# Altium schematic symbol library Personal_Schematic_Library_2022.SchLib: 863 symbols (part 7 of 8)
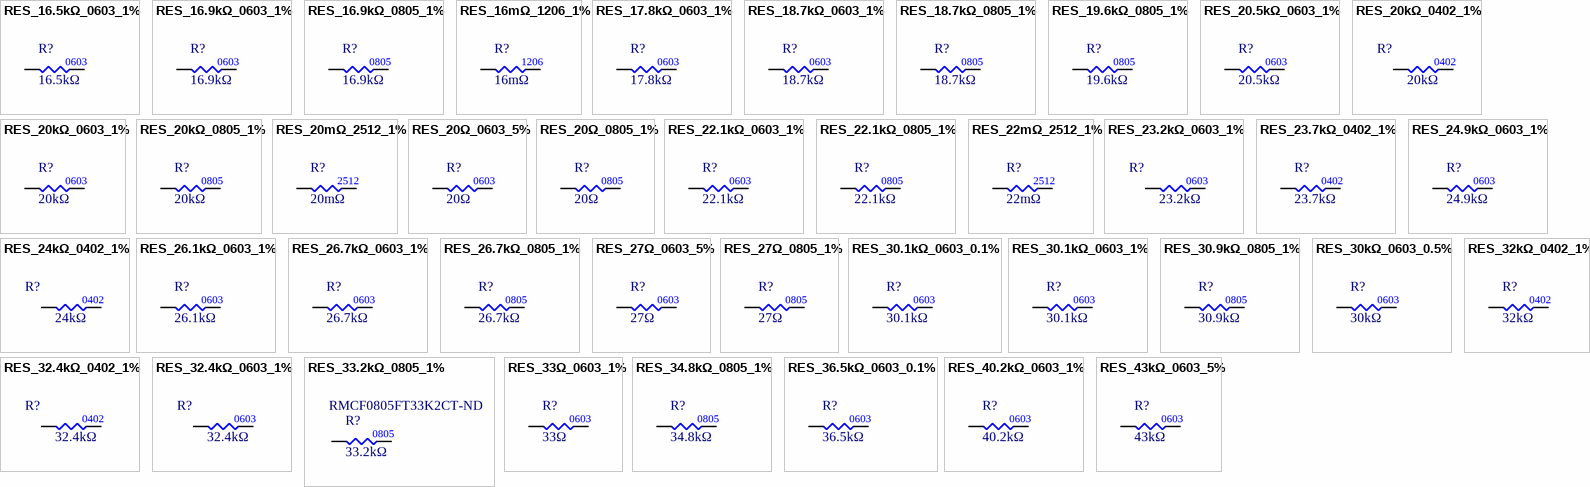
[diagram p35: symbols RES_16.5kΩ_0603_1% to RES_43kΩ_0603_5%]

## RES_20Ω_0805_1%
designator R?  value 20Ω
RES 20 OHM 1% 1/8W 0805; Manufacturer 1: Yageo; Manufacturer Part Number 1: RC0805FR-0720RL; Supplier 1: Digi-Key; Mounting Type: SMD; Supplier Part Number 1: 311-20.0CRCT-ND; LCSC Part #: C17581; Package: 0805
footprint RES0805 (Chip Resistor, 2-Leads, Body 2.00x1.25mm, IPC High Density)
pins: 1, 2

## RES_22.1kΩ_0603_1%
designator R?  value 22.1kΩ
RES 22.1K OHM 1% 1/10W 0603; Manufacturer 1: Stackpole Electronics Inc; Manufacturer Part Number 1: RMCF0603FT22K1; Supplier 1: Digi-Key; Supplier Part Number 1: RMCF0603FT22K1CT-ND
footprint RES0603 (Chip Resistor, Body 1.6x0.8mm, IPC Medium Density)
pins: 1, 2
text: 0603

## RES_22.1kΩ_0805_1%
designator R?  value 22.1kΩ
RES 22.1K OHM 1% 1/8W 0805; Manufacturer 1: Vishay Dale; Manufacturer Part Number 1: CRCW080522K1FKEA; Supplier 1: Digi-Key; Supplier Part Number 1: 541-22.1KCCT-ND
footprint RES0805 (Chip Resistor, 2-Leads, Body 2.00x1.25mm, IPC High Density)
pins: 1, 2
text: 0805

## RES_22mΩ_2512_1%
designator R?  value 22mΩ
RES 22 mOHM 1% 2W 2512; Manufacturer 1: Yageo; Manufacturer Part Number 1: PE2512FKE7W0R022L; Supplier 1: Digi-Key; Supplier Part Number 1: YAG2168CT-ND
footprint RESC6532X75N
pins: 1, 2
text: 2512

## RES_23.2kΩ_0603_1%
designator R?  value 23.2kΩ
RES 23.2K OHM 1% 1/10W 0603; Manufacturer Part Number 1: RMCF0603FT23K2; Manufacturer 1: Stackpole Electronics Inc; Package/Footprint: 0603; Supplier 1: Digi-Key; Supplier Part Number 1: RMCF0603FT23K2CT-ND
footprint RES0603 (Chip Resistor, Body 1.6x0.8mm, IPC Medium Density)
pins: 1, 2

## RES_23.7kΩ_0402_1%
designator R?  value 23.7kΩ
RES 23.7K OHM 1% 1/16W 0402; Manufacturer Part Number 1: RMCF0402FT23K7; Manufacturer 1: Stackpole Electronics Inc; Power: 0.063W, 1/16W; Package/Footprint: 0402; Supplier 1: Digi-Key; Supplier Part Number 1: RMCF0402FT23K7CT-ND; Mounting Type: SMD; Tolerance: 1%
footprint RES0402 (Chip Resistor, Body 1x0.5mm, IPC Medium Density)
pins: 1, 2

## RES_24.9kΩ_0603_1%
designator R?  value 24.9kΩ
RES 24.9K OHM 1% 1/10W 0603; Manufacturer 1: YAGEO; Manufacturer Part Number 1: RC0603FR-0724K9L; Supplier Part Number 1: 311-24.9KHRCT-ND; Supplier 1: Digi-Key
footprint RES0603 (Chip Resistor, Body 1.6x0.8mm, IPC Medium Density)
pins: 1, 2
text: 0603

## RES_24kΩ_0402_1%
designator R?  value 24kΩ
RES 24K OHM 1% 1/16W 0402; Manufacturer Part Number 1: RC0402FR-0724KL; Manufacturer 1: Yageo; Power: 0.063W, 1/16W; Package/Footprint: 0402; Supplier 1: Digi-Key; Supplier Part Number 1: 311-24KLRCT-ND; Mounting Type: SMD; Tolerance: 1%
footprint RES0402 (Chip Resistor, Body 1x0.5mm, IPC Medium Density)
pins: 1, 2

## RES_26.1kΩ_0603_1%
designator R?  value 26.1kΩ
RES 26.1K OHM 1% 1/10W 0603; Manufacturer 1: Yageo; Manufacturer Part Number 1: RC0603FR-0726K1L; Supplier Part Number 1: 311-26.1KHRCT-ND; Supplier 1: Digi-Key
footprint RES0603 (Chip Resistor, Body 1.6x0.8mm, IPC Medium Density)
pins: 1, 2
text: 0603

## RES_26.7kΩ_0603_1%
designator R?  value 26.7kΩ
RES 26.7K OHM 1% 1/10W 0603; Manufacturer 1: Yageo; Manufacturer Part Number 1: RC0603FR-0726K7L; Supplier Part Number 1: 311-26.7KHRCT-ND; Supplier 1: Digi-Key
footprint RES0603 (Chip Resistor, Body 1.6x0.8mm, IPC Medium Density)
pins: 1, 2
text: 0603

## RES_26.7kΩ_0805_1%
designator R?  value 26.7kΩ
RES 26.7K OHM 1% 1/8W 0805; Manufacturer 1: Panasonic Electronic Components; Manufacturer Part Number 1: ERJ-6ENF2672V; Supplier Part Number 1: P26.7KCCT-ND; Supplier 1: Digi-Key; Mounting Type: SMD; LCSC Part #: C17581; Package: 0805
footprint RES0805 (Chip Resistor, 2-Leads, Body 2.00x1.25mm, IPC High Density)
pins: 1, 2

## RES_27Ω_0603_5%
designator R?  value 27Ω
RES 27 OHM 5% 1/10W 0603; Manufacturer 1: Yageo; Manufacturer Part Number 1: RC0603JR-0727RL; Supplier 1: Digi-Key; Mounting Type: SMD; Supplier Part Number 1: 311-27GRCT-ND; Package: 0603
footprint RES0603 (Chip Resistor, Body 1.6x0.8mm, IPC Medium Density)
pins: 1, 2

## RES_27Ω_0805_1%
designator R?  value 27Ω
RES 27 OHM 1% 1/8W 0805; Manufacturer 1: Yageo; Manufacturer Part Number 1: RC0805FR-0727RL; Supplier 1: Digi-Key; Supplier Part Number 1: 311-27.0CRCT-ND; Package: 0805; Tolerance: 1%
footprint RES0805 (Chip Resistor, 2-Leads, Body 2.00x1.25mm, IPC High Density)
pins: 1, 2

## RES_30.1kΩ_0603_0.1%
designator R?  value 30.1kΩ
RES SMD 30.1KOHM 0.1% 1/10W 0603; Manufacturer 1: YAGEO; Manufacturer Part Number 1: RT0603BRD0730K1L; Mounting Type: SMD; Package: 0603; Supplier 1: Digi-Key; Supplier Part Number 1: YAG1631CT-ND
footprint RES0603 (Chip Resistor, Body 1.6x0.8mm, IPC Medium Density)
pins: 1, 2

## RES_30.1kΩ_0603_1%
designator R?  value 30.1kΩ
RES 30.1K OHM 1% 1/10W 0603; Manufacturer 1: Panasonic Electronic Components; Manufacturer Part Number 1: ERJ-3EKF3012V; Mounting Type: SMD; Package: 0603; Supplier 1: Digikey; Supplier Part Number 1: P30.1KHCT-ND
footprint RES0603 (Chip Resistor, Body 1.6x0.8mm, IPC Medium Density)
pins: 1, 2

## RES_30.9kΩ_0805_1%
designator R?  value 30.9kΩ
RES 30.9K OHM 1% 1/8W 0805; Manufacturer 1: Stackpole Electronics Inc; Manufacturer Part Number 1: RMCF0805FT30K9; Supplier 1: Digi-Key; Supplier Part Number 1: RMCF0805FT30K9CT-ND; Package: 0805
footprint RES0805 (Chip Resistor, 2-Leads, Body 2.00x1.25mm, IPC High Density)
pins: 1, 2

## RES_30kΩ_0603_0.5%
designator R?  value 30kΩ
RES 30K OHM 0.5% 1/10W 0603; Manufacturer 1: Yageo; Manufacturer Part Number 1: RT0603DRD0730KL; Supplier Part Number 1: 311-30KDCT-ND; Supplier 1: Digi-Key; Package: 0603; Tolerance: 0.5%
footprint RES0603 (Chip Resistor, Body 1.6x0.8mm, IPC Medium Density)
pins: 1, 2

## RES_32.4kΩ_0402_1%
designator R?  value 32.4kΩ
RES 32.4K OHM 1% 1/10W 0402; Manufacturer Part Number 1: ERJ-2RKF3242X; Manufacturer 1: Panasonic Electronic Components; Power: 0.1W, 1/10W; Package/Footprint: 0402; Supplier 1: Digi-Key; Supplier Part Number 1: P32.4KLCT-ND; Mounting Type: SMD; Tolerance: 1%
footprint RES0402 (Chip Resistor, Body 1x0.5mm, IPC Medium Density)
pins: 1, 2

## RES_32.4kΩ_0603_1%
designator R?  value 32.4kΩ
RES 32.4K OHM 1% 1/10W 0603; Manufacturer Part Number 1: RC0603FR-0732K4L; Manufacturer 1: YAGEO; Package/Footprint: 0603; Supplier 1: Digi-Key; Supplier Part Number 1: 311-32.4KHRCT-ND
footprint RES0603 (Chip Resistor, Body 1.6x0.8mm, IPC Medium Density)
pins: 1, 2

## RES_32kΩ_0402_1%
designator R?  value 32kΩ
RES 32K OHM 1% 1/16W 0402; Manufacturer 1: Vishay Dale; Manufacturer Part Number 1: RN73H1ETTP3202F50; Package/Footprint: 0402; Supplier 1: Digi-Key; Supplier Part Number 1: 2019-RN73H1ETTP3202F50CT-ND; Tolerance: 1%
footprint RES0402 (Chip Resistor, Body 1x0.5mm, IPC Medium Density)
pins: 1, 2

## RES_33.2kΩ_0805_1%
designator R?  value 33.2kΩ  Supplier Part Number 1: RMCF0805FT33K2CT-ND
RES 33.2K OHM 1% 1/8W 0805; Manufacturer 1: Stackpole Electronics Inc; Manufacturer Part Number 1: RMCF0805FT33K2; Package/Footprint: 0805; Mounting Type: SMD; Supplier 1: Digi-Key
footprint RES0805 (Chip Resistor, 2-Leads, Body 2.00x1.25mm, IPC High Density)
pins: 1, 2

## RES_33Ω_0603_1%
designator R?  value 33Ω
RES 33 OHM 1% 1/10W 0603; Manufacturer 1: Vishay; Manufacturer Part Number 1: CRCW060333R0FKEA; Supplier 1: Digi-Key; Mounting Type: SMD; Supplier Part Number 1: 541-33.0HCT-ND; Package: 0603
footprint RES0603 (Chip Resistor, Body 1.6x0.8mm, IPC Medium Density)
pins: 1, 2

## RES_34.8kΩ_0805_1%
designator R?  value 34.8kΩ
RES 34.8K OHM 1% 1/8W 0805; Manufacturer 1: Stackpole Electronics Inc; Manufacturer Part Number 1: RMCF0805FT34K8; Supplier 1: Digi-Key; Supplier Part Number 1: RMCF0805FT34K8CT-ND; Package: 0805
footprint RES0805 (Chip Resistor, 2-Leads, Body 2.00x1.25mm, IPC High Density)
pins: 1, 2

## RES_36.5kΩ_0603_0.1%
designator R?  value 36.5kΩ
RES SMD 36.5K OHM 0.1% 1/5W 0603; Manufacturer 1: Panasonic Electronic Components; Manufacturer Part Number 1: ERJ-PB3B3652V; Supplier 1: Digi-Key; Mounting Type: SMD; Supplier Part Number 1: P20149CT-ND; Package: 0603
footprint RES0603 (Chip Resistor, Body 1.6x0.8mm, IPC Medium Density)
pins: 1, 2

## RES_40.2kΩ_0603_1%
designator R?  value 40.2kΩ
RES 40.2K OHM 1% 1/10W 0603; Manufacturer 1: Yageo; Manufacturer Part Number 1: RC0603FR-0740K2L; Supplier Part Number 1: 311-40.2KHRCT-ND; Supplier 1: Digi-Key
footprint RES0603 (Chip Resistor, Body 1.6x0.8mm, IPC Medium Density)
pins: 1, 2
text: 0603

## RES_43kΩ_0603_5%
designator R?  value 43kΩ
RES 43K OHM 5% 1/10W 0603; Manufacturer 1: Yageo; Manufacturer Part Number 1: RC0603JR-0743KL; Supplier Part Number 1: 311-43KGRCT-ND; Supplier 1: Digi-Key
footprint RES0603 (Chip Resistor, Body 1.6x0.8mm, IPC Medium Density)
pins: 1, 2
text: 0603

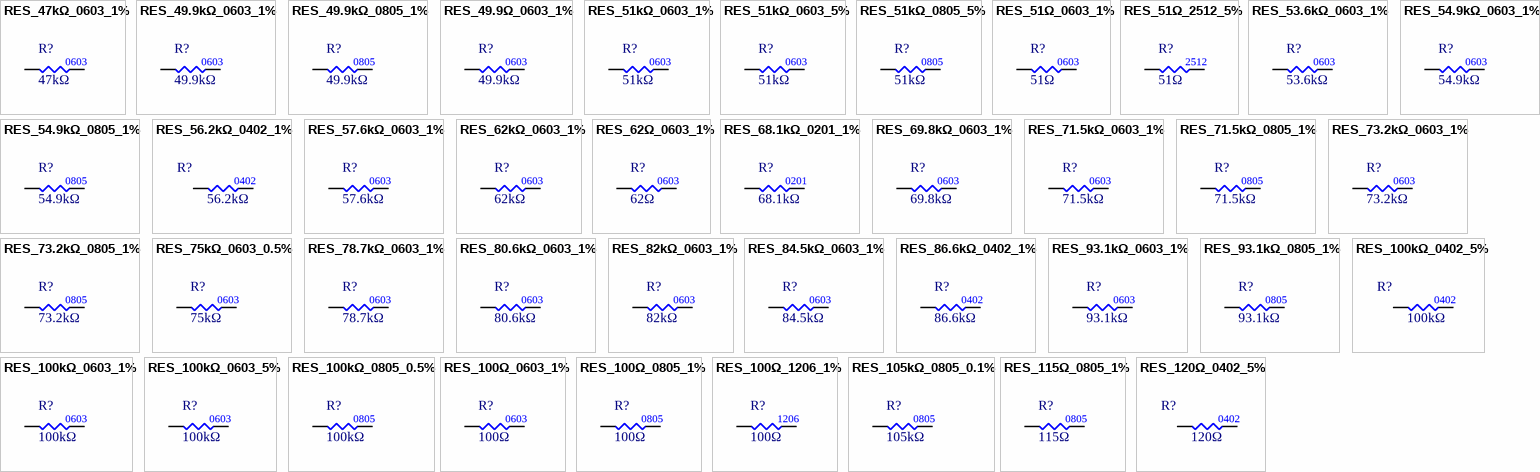
[diagram p24: symbols RES_47kΩ_0603_1% to RES_120Ω_0402_5%]

## RES_47kΩ_0603_1%
designator R?  value 47kΩ
RES 47K OHM 1% 1/10W 0603; Manufacturer 1: YAGEO; Manufacturer Part Number 1: RC0603FR-0747KL; Mounting Type: SMD; Package: 0603; Supplier 1: DigiKey; Supplier Part Number 1: 311-4.70KHRCT-ND
footprint RES0603 (Chip Resistor, Body 1.6x0.8mm, IPC Medium Density)
pins: 1, 2

## RES_49.9kΩ_0603_1%
designator R?  value 49.9kΩ
RES 49.9K OHM 1% 1/10W 0603; Manufacturer Part Number 1: RK73H1JTTD4992F; Manufacturer 1: KOA Speer Electronics, Inc.; Supplier 1: Digi-Key; Supplier Part Number 1: 2019-RK73H1JTTD4992FCT-ND; Mounting Type: SMD
footprint RES0603 (Chip Resistor, Body 1.6x0.8mm, IPC Medium Density)
pins: 1, 2
text: 0603

## RES_49.9kΩ_0805_1%
designator R?  value 49.9kΩ
RES 49.9K OHM 1% 1/8W 0805; Manufacturer 1: Vishay Dale; Manufacturer Part Number 1: TNPW080549K9BEEN; Package/Footprint: 0805; Supplier 1: Digi-Key; Mounting Type: SMD; Supplier Part Number 1: 541-3802-1-ND; LCSC Part #: C17719
footprint RES0805 (Chip Resistor, 2-Leads, Body 2.00x1.25mm, IPC High Density)
pins: 1, 2

## RES_49.9Ω_0603_1%
designator R?  value 49.9kΩ
RES 49.9 OHM 1% 1/10W 0603; Manufacturer 1: Yageo; Manufacturer Part Number 1: RC0603FR-0749R9L; Supplier 1: Digi-Key; Supplier Part Number 1: 311-49.9HRDKR-ND
footprint RES0603 (Chip Resistor, Body 1.6x0.8mm, IPC Medium Density)
pins: 1, 2
text: 0603

## RES_51kΩ_0603_1%
designator R?  value 51kΩ
RES 51K OHM 1% 1/10W 0603; Manufacturer 1: Yageo; Manufacturer Part Number 1: RC0603FR-0751KL; Supplier Part Number 1: 311-51.0KHRCT-ND; Supplier 1: Digi-Key
footprint RES0603 (Chip Resistor, Body 1.6x0.8mm, IPC Medium Density)
pins: 1, 2
text: 0603

## RES_51kΩ_0603_5%
designator R?  value 51kΩ
RES 51K OHM 5% 1/10W 0603; Manufacturer 1: Yageo; Manufacturer Part Number 1: RC0603JR-0751KL; Supplier Part Number 1: 311-51KGRCT-ND; Supplier 1: Digi-Key
footprint RESC0603(1608)_N (Chip Resistor, Body 1.6x0.8mm, IPC Medium Density)
pins: 1, 2
text: 0603

## RES_51kΩ_0805_5%
designator R?  value 51kΩ
RES 51K OHM 1% 1/8W 0805; Manufacturer 1: Vishay Dale; Manufacturer Part Number 1: CRCW080551K0FKEA; Supplier 1: Digi-Key; Supplier Part Number 1: 541-51.0KCCT-ND
footprint RESC2012X60N
pins: 1, 2
text: 0805

## RES_51Ω_0603_1%
designator R?  value 51Ω
RES 51 OHM 1% 1/10W 0603; Manufacturer 1: YAGEO; Manufacturer Part Number 1: RC0603FR-0751RL; Supplier 1: Digi-Key; Supplier Part Number 1: 311-51.0HRCT-ND
footprint RES0603 (Chip Resistor, Body 1.6x0.8mm, IPC Medium Density)
pins: 1, 2
text: 0603

## RES_51Ω_2512_5%
designator R?  value 51Ω
RES 51 OHM 5% 2W 2512; Manufacturer 1: Bourns Inc.; Manufacturer Part Number 1: CRM2512-JW-510ELF; Supplier 1: Digi-Key; Supplier Part Number 1: 118-CRM2512-JW-510ELFCT-ND
footprint RESC6532X75N
pins: 1, 2
text: 2512

## RES_53.6kΩ_0603_1%
designator R?  value 53.6kΩ
RES 53.6K OHM 1% 1/10W 0603; Manufacturer 1: Vishay Dale; Manufacturer Part Number 1: CRCW060353K6FKEAC; Package/Footprint: 0603; Supplier 1: Digi-Key; Supplier Part Number 1: 541-5473-1-ND
footprint RES0603 (Chip Resistor, Body 1.6x0.8mm, IPC Medium Density)
pins: 1, 2

## RES_54.9kΩ_0603_1%
designator R?  value 54.9kΩ
RES 54.9K OHM 1% 1/10W 0603; Manufacturer 1: Vishay Dale; Manufacturer Part Number 1: CRCW060354K9FKEA; Package/Footprint: 0603; Supplier 1: Digi-Key; Supplier Part Number 1: 541-54.9KHCT-ND
footprint RES0603 (Chip Resistor, Body 1.6x0.8mm, IPC Medium Density)
pins: 1, 2

## RES_54.9kΩ_0805_1%
designator R?  value 54.9kΩ
RES 54.9K OHM 1% 1/8W 0805; Manufacturer 1: Panasonic Electronic Components; Manufacturer Part Number 1: ERJ-6ENF5492V; Package/Footprint: 0805; Supplier 1: Digi-Key; Supplier Part Number 1: P54.9KCCT-ND
footprint RES0805 (Chip Resistor, 2-Leads, Body 2.00x1.25mm, IPC High Density)
pins: 1, 2

## RES_56.2kΩ_0402_1%
designator R?  value 56.2kΩ
RES 56.2K OHM 1% 1/16W 0402; Manufacturer Part Number 1: RC0402FR-0756K2L; Manufacturer 1: Yageo; Power: 0.063W, 1/16W; Package/Footprint: 0402; Supplier 1: Digi-Key; Supplier Part Number 1: YAG3187CT-ND; Mounting Type: SMD; Tolerance: 1%
footprint RES0402 (Chip Resistor, Body 1x0.5mm, IPC Medium Density)
pins: 1, 2

## RES_57.6kΩ_0603_1%
designator R?  value 57.6kΩ
RES 57.6K OHM 1% 1/10W 0603; Manufacturer 1: YAGEO; Manufacturer Part Number 1: RC0603FR-0757K6L; Package/Footprint: 0603; Supplier 1: Digi-Key; Supplier Part Number 1: 311-57.6KHRCT-ND
footprint RES0603 (Chip Resistor, Body 1.6x0.8mm, IPC Medium Density)
pins: 1, 2

## RES_62kΩ_0603_1%
designator R?  value 62kΩ
RES 62K OHM 1% 1/10W 0603; Manufacturer: Stackpole Electronics Inc; Manufacturer Part Number 1: RMCF0603FT62K0; Supplier 1: Digi-Key; Supplier Part Number 1: RMCF0603FT62K0CT-ND; Package: 0603
footprint RES0603 (Chip Resistor, Body 1.6x0.8mm, IPC Medium Density)
pins: 1, 2

## RES_62Ω_0603_1%
designator R?  value 62Ω
RES 62 OHM 1% 1/10W 0603; Manufacturer: Vishay; Manufacturer Part Number 1: CRCW060362R0FKEA; Supplier 1: Digi-Key; Supplier Part Number 1: 541-62.0HCT-ND; Package: 0603
pins: 1, 2

## RES_68.1kΩ_0201_1%
designator R?  value 68.1kΩ
RES 68.1K OHM 1% 1/20W 0201; Manufacturer 1: Panasonic Electronic Components; Manufacturer Part Number 1: ERJ-1GNF6812C; Supplier 1: Digi-Key; Supplier Part Number 1: P123130CT-ND; Package: 0201
footprint RES0201 (Chip Resistor, Body 0.6x0.3mm, IPC Medium Density)
pins: 1, 2

## RES_69.8kΩ_0603_1%
designator R?  value 69.8kΩ
RES 69.8K OHM 1% 1/10W 0603; Manufacturer 1: YAGEO; Manufacturer Part Number 1: RC0603FR-0769K8L; Package/Footprint: 0603; Mounting Type: SMD; Supplier 1: Digi-Key; Supplier Part Number 1: 311-69.8KHRCT-ND
footprint RES0603 (Chip Resistor, Body 1.6x0.8mm, IPC Medium Density)
pins: 1, 2

## RES_71.5kΩ_0603_1%
designator R?  value 71.5kΩ
RES 71.5K OHM 1% 1/10W 0603; Manufacturer 1: Stackpole Electronics Inc; Manufacturer Part Number 1: RMCF0603FT71K5; Package/Footprint: 0603; Mounting Type: SMD; Supplier 1: Digi-Key; Supplier Part Number 1: RMCF0603FT71K5CT-ND
footprint RES0603 (Chip Resistor, Body 1.6x0.8mm, IPC Medium Density)
pins: 1, 2

## RES_71.5kΩ_0805_1%
designator R?  value 71.5kΩ
RES 71.5K OHM 1% 1/8W 0805; Manufacturer 1: Yageo; Manufacturer Part Number 1: RC0805FR-0771K5L; Package/Footprint: 0805; Mounting Type: SMD; Supplier 1: Digi-Key; Supplier Part Number 1: 311-71.5KCRCT-ND
footprint RES0805 (Chip Resistor, 2-Leads, Body 2.00x1.25mm, IPC High Density)
pins: 1, 2

## RES_73.2kΩ_0603_1%
designator R?  value 73.2kΩ
RES 73.2K OHM 1% 1/16W 0603; Manufacturer 1: TE Connectivity Passive Product; Manufacturer Part Number 1: CPF0603F73K2C1; Supplier Part Number 1: A102314CT-ND; Supplier 1: Digi-Key
footprint RES0603 (Chip Resistor, Body 1.6x0.8mm, IPC Medium Density)
pins: 1, 2
text: 0603

## RES_73.2kΩ_0805_1%
designator R?  value 73.2kΩ
RES 73.2K OHM 1% 1/8W 0805; Manufacturer 1: Yageo; Manufacturer Part Number 1: RC0805FR-0773K2L; Package/Footprint: 0805; Mounting Type: SMD; Supplier 1: Digi-Key; Supplier Part Number 1: 311-73.2KCRCT-ND
footprint RES0805 (Chip Resistor, 2-Leads, Body 2.00x1.25mm, IPC High Density)
pins: 1, 2

## RES_75kΩ_0603_0.5%
designator R?  value 75kΩ
RES 75K OHM 0.5% 1/10W 0603; Manufacturer 1: Yageo; Manufacturer Part Number 1: RT0603DRD0775KL; Supplier Part Number 1: 311-75KDCT-ND; Supplier 1: Digi-Key
footprint RES0603 (Chip Resistor, Body 1.6x0.8mm, IPC Medium Density)
pins: 1, 2
text: 0603

## RES_78.7kΩ_0603_1%
designator R?  value 78.7kΩ
RES 78.7K OHM 1% 1/10W 0603; Manufacturer 1: Yageo; Manufacturer Part Number 1: RC0603FR-0778K7L; Supplier Part Number 1: 311-78.7KHRCT-ND; Supplier 1: Digi-Key
footprint RES0603 (Chip Resistor, Body 1.6x0.8mm, IPC Medium Density)
pins: 1, 2
text: 0603

## RES_80.6kΩ_0603_1%
designator R?  value 80.6kΩ
RES 80.6K OHM 1% 1/10W 0603; Manufacturer 1: Stackpole Electronics Inc; Manufacturer Part Number 1: RMCF0603FT80K6; Supplier Part Number 1: RMCF0603FT80K6CT-ND; Supplier 1: Digi-Key
footprint RES0603 (Chip Resistor, Body 1.6x0.8mm, IPC Medium Density)
pins: 1, 2
text: 0603

## RES_82kΩ_0603_1%
designator R?  value 82kΩ
RES 82K OHM 1% 1/10W 0603; Manufacturer 1: Yageo; Manufacturer Part Number 1: RC0603FR-0782KL; Supplier 1: DigiKey; Supplier Part Number 1: 311-8.20KHRCT-ND
footprint RES0603 (Chip Resistor, Body 1.6x0.8mm, IPC Medium Density)
pins: 1, 2
text: 0603

## RES_84.5kΩ_0603_1%
designator R?  value 84.5kΩ
RES 84.5K OHM 1% 1/10W 0603; Manufacturer 1: Yageo; Manufacturer Part Number 1: RC0603FR-0784K5L; Supplier Part Number 1: 311-84.5KHRCT-ND; Supplier 1: Digi-Key
footprint RES0603 (Chip Resistor, Body 1.6x0.8mm, IPC Medium Density)
pins: 1, 2
text: 0603

## RES_86.6kΩ_0402_1%
designator R?  value 86.6kΩ
RES SMD 86.6K OHM 1% 1/16W 0402; Manufacturer Part Number 1: RC0402FR-0786K6L; Manufacturer 1: Yageo; Power: 0.063W, 1/16W; Package/Footprint: 0402; Supplier 1: Digi-Key; Supplier Part Number 1: YAG3249CT-ND; Mounting Type: SMD; Tolerance: 1%
footprint RES0402 (Chip Resistor, Body 1x0.5mm, IPC Medium Density)
pins: 1, 2

## RES_93.1kΩ_0603_1%
designator R?  value 93.1kΩ
RES 93.1K OHM 1% 1/10W 0603; Manufacturer 1: Vishay Dale; Manufacturer Part Number 1: CRCW060393K1FKEA; Supplier Part Number 1: 541-93.1KHCT-ND; Supplier 1: Digi-Key
footprint RES0603 (Chip Resistor, Body 1.6x0.8mm, IPC Medium Density)
pins: 1, 2
text: 0603

## RES_93.1kΩ_0805_1%
designator R?  value 93.1kΩ
RES 93.1K OHM 1% 1/8W 0805; Manufacturer 1: Panasonic Electronic Components; Manufacturer Part Number 1: ERJ-6ENF9312V; Package/Footprint: 0805; Supplier Part Number 1: P93.1KCCT-ND; Supplier 1: Digi-Key; Mounting Type: SMD; LCSC Part #: C17869
footprint RES0805 (Chip Resistor, 2-Leads, Body 2.00x1.25mm, IPC High Density)
pins: 1, 2

## RES_100kΩ_0402_5%
designator R?  value 100kΩ
RES 100K OHM 5% 1/10W 0402; Manufacturer Part Number 1: ERJ-2GEJ104X; Manufacturer 1: Panasonic Electronic Components; Power: 0.1W, 1/10W; Supplier 1: Digi-Key; Supplier Part Number 1: P100KJCT-ND; Mounting Type: SMD; Tolerance: 5%; Package: 0402
footprint RES0402 (Chip Resistor, Body 1x0.5mm, IPC Medium Density)
pins: 1, 2

## RES_100kΩ_0603_1%
designator R?  value 100kΩ
RES 100K OHM 1% 1/10W 0603; Manufacturer 1: Yageo; Manufacturer Part Number 1: RC0603FR-07100KL; Supplier Part Number 1: 311-100KHRCT-ND; Supplier 1: Digi-Key
footprint RES0603 (Chip Resistor, Body 1.6x0.8mm, IPC Medium Density)
pins: 1, 2
text: 0603

## RES_100kΩ_0603_5%
designator R?  value 100kΩ
RES 100K OHM 5% 1/10W 0603; Manufacturer 1: Yageo; Manufacturer Part Number 1: RC0603FR-07261KL; Supplier Part Number 1: 311-261KHRCT-ND; Supplier 1: Digi-Key
footprint RES0603 (Chip Resistor, Body 1.6x0.8mm, IPC Medium Density)
pins: 1, 2
text: 0603

## RES_100kΩ_0805_0.5%
designator R?  value 100kΩ
RES 100K OHM 0.5% 1/8W 0805; Manufacturer 1: Panasonic; Manufacturer Part Number 1: ERA-6AED104V; Supplier 1: Digi-Key; Supplier Part Number 1: P123795CT-ND
footprint RES0805 (Chip Resistor, 2-Leads, Body 2.00x1.25mm, IPC High Density)
pins: 1, 2
text: 0805

## RES_100Ω_0603_1%
designator R?  value 100Ω
RES 100 OHM 1% 1/10W 0603; Manufacturer 1: Yageo; Manufacturer Part Number 1: RC0603FR-07100RL; Supplier Part Number 1: 311-100HRCT-ND; Supplier 1: Digi-Key
footprint RES0603 (Chip Resistor, Body 1.6x0.8mm, IPC Medium Density)
pins: 1, 2
text: 0603

## RES_100Ω_0805_1%
designator R?  value 100Ω
RES 100 OHM 1% 1/8W 0805; Manufacturer 1: Vishay Dale; Manufacturer Part Number 1: CRCW0805100RFKEA; Package/Footprint: 0805; Supplier 1: Digi-Key; Mounting Type: SMD; Supplier Part Number 1: 541-100CCT-ND; LCSC Part #: C1790
footprint RES0805 (Chip Resistor, 2-Leads, Body 2.00x1.25mm, IPC High Density)
pins: 1, 2

## RES_100Ω_1206_1%
designator R?  value 100Ω
RES 100 OHM 1% 1/4W 1206; Manufacturer 1: YAGEO; Manufacturer Part Number 1: RC1206FR-07100RL; Package/Footprint: 1206; Supplier 1: Digi-Key; Mounting Type: SMD; Supplier Part Number 1: 311-100FRCT-ND
footprint RES1206 (Chip Resistor, Body 3.2x1.6mm, IPC Medium Density)
pins: 1, 2

## RES_105kΩ_0805_0.1%
designator R?  value 105kΩ
RES 105K OHM 0.1% 1/8W 0805; Manufacturer 1: Panasonic; Manufacturer Part Number 1: ERA-6AEB1053V; Supplier 1: Digi-Key; Supplier Part Number 1: P105KDACT-ND
footprint RES0805 (Chip Resistor, 2-Leads, Body 2.00x1.25mm, IPC High Density)
pins: 1, 2
text: 0805

## RES_115Ω_0805_1%
designator R?  value 115Ω
RES 115 OHM 1% 1/8W 0805; Manufacturer 1: Yageo; Manufacturer Part Number 1: RC0805FR-07115RL; Supplier 1: Digi-Key; Supplier Part Number 1: 311-115CRCT-ND
footprint RES0805 (Chip Resistor, 2-Leads, Body 2.00x1.25mm, IPC High Density)
pins: 1, 2
1 alternate drawing of the same symbol
text: 0805

## RES_120Ω_0402_5%
designator R?  value 120Ω
RES 120 OHM 5% 1/16W 0402; Manufacturer Part Number 1: RC0402JR-07120RL; Manufacturer 1: Yageo; Package/Footprint: 0402; Supplier 1: Digi-Key; Supplier Part Number 1: 311-120JRCT-ND; Mounting Type: SMD; Power: 1/16W; Tolerance: 5%
footprint RES0402 (Chip Resistor, Body 1x0.5mm, IPC Medium Density)
pins: 1, 2

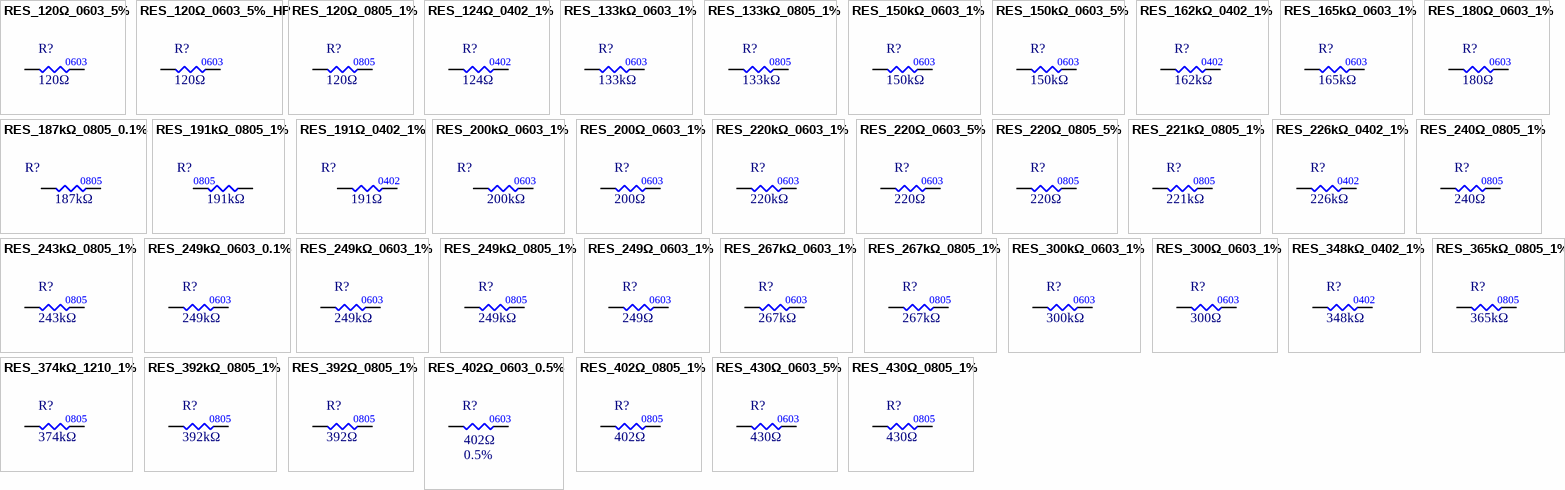
[diagram p25: symbols RES_120Ω_0603_5% to RES_430Ω_0805_1%]

## RES_120Ω_0603_5%
designator R?  value 120Ω
RES 120 OHM 5% 1/10W 0603; Manufacturer 1: Yageo; Manufacturer Part Number 1: RC0603JR-07120RL; Package/Footprint: 0603; Supplier Part Number 1: 311-120GRCT-ND; Supplier 1: Digi-Key; Mounting Type: SMD
footprint RES0603 (Chip Resistor, Body 1.6x0.8mm, IPC Medium Density)
pins: 1, 2

## RES_120Ω_0603_5%_HP
designator R?  value 120Ω
RES 120 OHM 5% 1/4W 0603; Manufacturer 1: Rohm; Manufacturer Part Number 1: ESR03EZPJ121; Supplier 1: Digi-Key; Mounting Type: SMD; Supplier Part Number 1: RHM120DCT-ND; Package: 0603
footprint RES0603 (Chip Resistor, Body 1.6x0.8mm, IPC Medium Density)
pins: 1, 2

## RES_120Ω_0805_1%
designator R?  value 120Ω
RES 120 OHM 1% 1/8W 0805; Manufacturer 1: Vishay; Manufacturer Part Number 1: CRCW0805120RFKEA; Package/Footprint: 0805; Supplier 1: Digi-Key; Mounting Type: SMD; Supplier Part Number 1: 541-120CCT-ND; LCSC Part #: C17437
footprint RES0805 (Chip Resistor, 2-Leads, Body 2.00x1.25mm, IPC High Density)
pins: 1, 2

## RES_124Ω_0402_1%
designator R?  value 124Ω
RES 124 OHM 1% 1/16W 0402; Manufacturer Part Number 1: RC0402FR-07124RL; Manufacturer 1: Vishay Dale; Power: 0.063W, 1/16W; Supplier 1: Digi-Key; Supplier Part Number 1: 311-124LRCT-ND; Mounting Type: SMD; Package: 0402; Tolerance: 1%
footprint RES0402 (Chip Resistor, Body 1x0.5mm, IPC Medium Density)
pins: 1, 2

## RES_133kΩ_0603_1%
designator R?  value 133kΩ
RES 133K OHM 1% 1/10W 0603; Manufacturer 1: Yageo; Manufacturer Part Number 1: RC0603FR-07133KL; Supplier 1: Digi-Key; Supplier Part Number 1: 311-133KHRCT-ND; PAckage: 0603
footprint RES0603 (Chip Resistor, Body 1.6x0.8mm, IPC Medium Density)
pins: 1, 2

## RES_133kΩ_0805_1%
designator R?  value 133kΩ
RES 133K OHM 1% 1/8W 0805; Manufacturer 1: Yageo; Manufacturer Part Number 1: RC0805FR-07133KL; Supplier 1: Digi-Key; Supplier Part Number 1: 311-133KCRCT-ND; PAckage: 0805
footprint RES0805 (Chip Resistor, 2-Leads, Body 2.00x1.25mm, IPC High Density)
pins: 1, 2

## RES_150kΩ_0603_1%
designator R?  value 150kΩ
RES 150K OHM 1% 1/10W 0603; Manufacturer 1: Yageo; Manufacturer Part Number 1: RC0603FR-07150KL; Supplier Part Number 1: 311-150KHRCT-ND; Supplier 1: Digi-Key; Mounting Type: Surface Mount
footprint RES0603 (Chip Resistor, Body 1.6x0.8mm, IPC Medium Density)
pins: 1, 2
text: 0603

## RES_150kΩ_0603_5%
designator R?  value 150kΩ
RES 150K OHM 5% 1/10W 0603; Manufacturer 1: Yageo; Manufacturer Part Number 1: RC0603JR-07150KL; Supplier Part Number 1: 311-150KGRCT-ND; Supplier 1: Digi-Key; Mounting Type: Surface Mount
footprint RES0603 (Chip Resistor, Body 1.6x0.8mm, IPC Medium Density)
pins: 1, 2
text: 0603

## RES_162kΩ_0402_1%
designator R?  value 162kΩ
RES 162K OHM 1% 1/16W 0402; Manufacturer Part Number 1: RMCF0402FT162K; Manufacturer 1: Panasonic Electronic Components; Power: 0.063W, 1/16W; Package/Footprint: 0402; Supplier 1: Digi-Key; Supplier Part Number 1: RMCF0402FT162KCT-ND; Mounting Type: SMD; Tolerance: 1%
footprint RES0402 (Chip Resistor, Body 1x0.5mm, IPC Medium Density)
pins: 1, 2

## RES_165kΩ_0603_1%
designator R?  value 165kΩ
RES 165K OHM 1% 1/10W 0603; Manufacturer 1: Yageo; Manufacturer Part Number 1: RC0603FR-07165KL; Supplier Part Number 1: 311-165KHRCT-ND; Supplier 1: Digi-Key
footprint RES0603 (Chip Resistor, Body 1.6x0.8mm, IPC Medium Density)
pins: 1, 2
text: 0603

## RES_180Ω_0603_1%
designator R?  value 180Ω
RES 180 OHM 1% 1/10W 0603; Manufacturer 1: Yageo; Manufacturer Part Number 1: RC0603FR-13180RL; Supplier 1: Digi-Key; Supplier Part Number 1: 13-RC0603FR-13180RLCT-ND
footprint RES0603 (Chip Resistor, Body 1.6x0.8mm, IPC Medium Density)
pins: 1, 2
text: 0603

## RES_187kΩ_0805_0.1%
designator R?  value 187kΩ
RES 187K OHM 0.1% 1/8W 0805; Manufacturer 1: Yageo; Manufacturer Part Number 1: RT0805BRD07187KL; Package/Footprint: 0805; Supplier Part Number 1: 13-RT0805BRD07187KLCT-ND; Supplier 1: Digi-Key; Mounting Type: SMD
footprint RES0805 (Chip Resistor, 2-Leads, Body 2.00x1.25mm, IPC High Density)
pins: 1, 2

## RES_191kΩ_0805_1%
designator R?  value 191kΩ
RES 191K OHM 1% 1/8W 0805; Manufacturer 1: Yageo; Manufacturer Part Number 1: RC0805FR-07191KL; Package/Footprint: 0805; Supplier Part Number 1: 311-191KCRTR-ND; Supplier 1: Digi-Key; Mounting Type: SMD
footprint RES0805 (Chip Resistor, 2-Leads, Body 2.00x1.25mm, IPC High Density)
pins: 1, 2

## RES_191Ω_0402_1%
designator R?  value 191Ω
RES 191 OHM 1% 1/16W 0402; Manufacturer Part Number 1: RC0402FR-07191RL; Manufacturer 1: Yageo; Power: 0.063W, 1/16W; Supplier 1: Digi-Key; Supplier Part Number 1: YAG3023CT-ND; Mounting Type: SMD; Package: 0402; Tolerance: 1%
footprint RES0402 (Chip Resistor, Body 1x0.5mm, IPC Medium Density)
pins: 1, 2

## RES_200kΩ_0603_1%
designator R?  value 200kΩ
RES 200K OHM 1% 1/10W 0603; Manufacturer 1: YAGEO; Manufacturer Part Number 1: RC0603FR-13200KL; Package/Footprint: 0603; Supplier Part Number 1: 13-RC0603FR-13200KLCT-ND; Supplier 1: Digi-Key; Mounting Type: SMD
footprint RES0603 (Chip Resistor, Body 1.6x0.8mm, IPC Medium Density)
pins: 1, 2

## RES_200Ω_0603_1%
designator R?  value 200Ω
RES 200 OHM 1% 1/10W 0603; Manufacturer 1: Rohm Semiconductor; Manufacturer Part Number 1: SFR03EZPF2000; Supplier 1: Digi-Key; Supplier Part Number 1: 511-1821-1-ND; Package: 0603; Tolerance: 1%
pins: 1, 2

## RES_220kΩ_0603_1%
designator R?  value 220kΩ
RES 220K OHM 1% 1/10W 0603; Manufacturer 1: Stackpole Electronics Inc; Manufacturer Part Number 1: RMCF0603FT220K; Supplier 1: Digi-Key; Supplier Part Number 1: RMCF0603FT220KCT-ND; Package: 0603; Tolerance: 1%
footprint RES0603 (Chip Resistor, Body 1.6x0.8mm, IPC Medium Density)
pins: 1, 2

## RES_220Ω_0603_5%
designator R?  value 220Ω
RES 220 OHM 5% 1/10W 0603; Manufacturer 1: Yageo; Manufacturer Part Number 1: AC0603JR-07220RL; Package/Footprint: 0603; Supplier Part Number 1: YAG3652CT-ND; Supplier 1: Digi-Key
footprint RES0603 (Chip Resistor, Body 1.6x0.8mm, IPC Medium Density)
pins: 1, 2

## RES_220Ω_0805_5%
designator R?  value 220Ω
RES 220 OHM 5% 1/2W 0805; Manufacturer 1: Panasonic Electronic Components; Manufacturer Part Number 1: ERJ-P06J221V; Supplier Part Number 1: P220ADCT-ND; Supplier 1: Digi-Key; Mounting Type: SMD; LCSC Part #: C17557; Package: 0805
footprint RES0805 (Chip Resistor, 2-Leads, Body 2.00x1.25mm, IPC High Density)
pins: 1, 2

## RES_221kΩ_0805_1%
designator R?  value 221kΩ
RES 221K OHM 1% 1/8W 0805; Manufacturer 1: Vishay; Manufacturer Part Number 1: CRCW0805221KFKEA; Supplier 1: Digi-Key; Supplier Part Number 1: 541-221KCCT-ND; LCSC Part #: C75431; Package: 0805
footprint RES0805 (Chip Resistor, 2-Leads, Body 2.00x1.25mm, IPC High Density)
pins: 1, 2

## RES_226kΩ_0402_1%
designator R?  value 226kΩ
RES 226K OHM 1% 1/16W 0402; Manufacturer 1: Vishay Dale; Manufacturer Part Number 1: CRCW0402226KFKED; Package/Footprint: 0402; Supplier 1: Digi-Key; Supplier Part Number 1: 541-226KLCT-ND
footprint RES0402 (Chip Resistor, Body 1x0.5mm, IPC Medium Density)
pins: 1, 2

## RES_240Ω_0805_1%
designator R?  value 240Ω
RES 240 OHM 1% 1/8W 0805; Manufacturer 1: Vishay; Manufacturer Part Number 1: CRCW0805240RFKEA; Supplier 1: Digi-Key; Supplier Part Number 1: 541-240CCT-ND
footprint RES0805 (Chip Resistor, 2-Leads, Body 2.00x1.25mm, IPC High Density)
pins: 1, 2
text: 0805

## RES_243kΩ_0805_1%
designator R?  value 243kΩ
RES 243K OHM 1% 1/8W 0805; Manufacturer 1: Stackpole Electronics Inc; Manufacturer Part Number 1: RMCF0805FT243K; Package/Footprint: 0805; Mounting Type: SMD; Supplier 1: Digi-Key; Supplier Part Number 1: RMCF0805FT243KCT-ND
footprint RES0805 (Chip Resistor, 2-Leads, Body 2.00x1.25mm, IPC High Density)
pins: 1, 2

## RES_249kΩ_0603_0.1%
designator R?  value 249kΩ
RES SMD 249K OHM 0.1% 1/10W 0603; Manufacturer 1: YAGEO; Manufacturer Part Number 1: RT0603BRD07249KL; Supplier Part Number 1: YAG4510CT-ND; Supplier 1: Digi-Key
footprint RES0603 (Chip Resistor, Body 1.6x0.8mm, IPC Medium Density)
pins: 1, 2
text: 0603

## RES_249kΩ_0603_1%
designator R?  value 249kΩ
RES 249K OHM 1% 1/10W 0603; Manufacturer 1: Stackpole Electronics Inc; Manufacturer Part Number 1: RMCF0603FT249K; Supplier Part Number 1: RMCF0603FT249KCT-ND; Supplier 1: Digi-Key
footprint RES0603 (Chip Resistor, Body 1.6x0.8mm, IPC Medium Density)
pins: 1, 2
text: 0603

## RES_249kΩ_0805_1%
designator R?  value 249kΩ
RES 249K OHM 1% 1/8W 0805; Manufacturer 1: Yageo; Manufacturer Part Number 1: RC0805FR-07249KL; Package/Footprint: 0805; Supplier Part Number 1: 311-249KCRCT-ND; Supplier 1: Digi-Key; Mounting Type: SMD; LCSC Part #: C25825
footprint RES0805 (Chip Resistor, 2-Leads, Body 2.00x1.25mm, IPC High Density)
pins: 1, 2

## RES_249Ω_0603_1%
designator R?  value 249Ω
RES 249 OHM 1% 1/10W 0603; Manufacturer 1: YAGEO; Manufacturer Part Number 1: RC0603FR-07249RL; Supplier Part Number 1: 311-249HRCT-ND; Supplier 1: Digi-Key
footprint RES0603 (Chip Resistor, Body 1.6x0.8mm, IPC Medium Density)
pins: 1, 2
text: 0603

## RES_267kΩ_0603_1%
designator R?  value 267kΩ
RES 267K OHM 1% 1/10W 0603; Manufacturer 1: Panasonic Electronic Components; Manufacturer Part Number 1: ERJ-3EKF2673V; Supplier 1: Digi-Key; Supplier Part Number 1: P267KHCT-ND; Package: 0603
footprint RES0603 (Chip Resistor, Body 1.6x0.8mm, IPC Medium Density)
pins: 1, 2

## RES_267kΩ_0805_1%
designator R?  value 267kΩ
RES 267K OHM 1% 1/8W 0805; Manufacturer 1: Yageo; Manufacturer Part Number 1: RC0603FR-071K2L; Supplier 1: Digi-Key; Supplier Part Number 1: 311-267KCRCT-ND; Package: 0805
footprint RES0805 (Chip Resistor, 2-Leads, Body 2.00x1.25mm, IPC High Density)
pins: 1, 2

## RES_300kΩ_0603_1%
designator R?  value 300kΩ
RES 300K OHM 1% 1/10W 0603; Manufacturer 1: Stackpole Electronics Inc; Manufacturer Part Number 1: RMCF0603FT300K; Supplier 1: Digi-Key; Supplier Part Number 1: RMCF0603FT300KCT-ND; Package: 0603; Tolerance: 1%
footprint RES0603 (Chip Resistor, Body 1.6x0.8mm, IPC Medium Density)
pins: 1, 2

## RES_300Ω_0603_1%
designator R?  value 300Ω
RES 200 OHM 1% 1/10W 0603; Manufacturer 1: YAGEO; Manufacturer Part Number 1: RL0603FR-070R3L; Supplier 1: Digi-Key; Supplier Part Number 1: 13-RL0603FR-070R3LCT-ND; Package: 0603; Tolerance: 1%
footprint RES0603 (Chip Resistor, Body 1.6x0.8mm, IPC Medium Density)
pins: 1, 2

## RES_348kΩ_0402_1%
designator R?  value 348kΩ
RES 348K OHM 1% 1/16W 0402; Manufacturer 1: Vishay Dale; Manufacturer Part Number 1: CRCW0402348KFKED; Supplier 1: Digi-Key; Supplier Part Number 1: 541-348KLCT-ND; Package: 0402
footprint RES0402 (Chip Resistor, Body 1x0.5mm, IPC Medium Density)
pins: 1, 2

## RES_365kΩ_0805_1%
designator R?  value 365kΩ
RES 365K OHM 1% 1/8W 0805; Manufacturer 1: Stackpole Electronics Inc; Manufacturer Part Number 1: RMCF0805FT365K; Supplier 1: Digi-Key; Supplier Part Number 1: RMCF0805FT365KCT-ND
footprint RES0805 (Chip Resistor, 2-Leads, Body 2.00x1.25mm, IPC High Density)
pins: 1, 2
1 alternate drawing of the same symbol
text: 0805

## RES_374kΩ_1210_1%
designator R?  value 374kΩ
RES 374K OHM 1% 1/3W 1210; Manufacturer 1: Stackpole Electronics Inc; Manufacturer Part Number 1: RMCF1210FT374K; Supplier 1: Digi-Key; Supplier Part Number 1: 738-RMCF1210FT374KCT-ND
footprint RES1210 (Chip Resistor, Body 3.20x2.50mm)
pins: 1, 2
1 alternate drawing of the same symbol
text: 0805

## RES_392kΩ_0805_1%
designator R?  value 392kΩ
RES 392K OHM 1% 1/8W 0805; Manufacturer 1: Yageo; Manufacturer Part Number 1: RC0805FR-07392KL; Supplier 1: Digi-Key; Supplier Part Number 1: 311-392KCRCT-ND
footprint RES0805 (Chip Resistor, 2-Leads, Body 2.00x1.25mm, IPC High Density)
pins: 1, 2
1 alternate drawing of the same symbol
text: 0805

## RES_392Ω_0805_1%
designator R?  value 392Ω
RES 392 OHM 1% 1/8W 0805; Manufacturer 1: Yageo; Manufacturer Part Number 1: RC0805FR-07392RL; Supplier 1: Digi-Key; Supplier Part Number 1: 311-392CRCT-ND
footprint RES0805 (Chip Resistor, 2-Leads, Body 2.00x1.25mm, IPC High Density)
pins: 1, 2
1 alternate drawing of the same symbol
text: 0805

## RES_402Ω_0603_0.5%
designator R?  value 402Ω  Tolerance: 0.5%
RES 402 OHM 0.5% 1/10W 0603; Manufacturer 1: Yageo; Manufacturer Part Number 1: RT0603DRD07402RL; Supplier 1: Digi-Key; Supplier Part Number 1: 311-402DCT-ND
footprint RES0603 (Chip Resistor, Body 1.6x0.8mm, IPC Medium Density)
pins: 1, 2
text: 0603

## RES_402Ω_0805_1%
designator R?  value 402Ω
RES 402 OHM 1% 1/8W 0805; Manufacturer 1: Stackpole Electronics Inc; Manufacturer Part Number 1: RMCF0805FT402R; Package/Footprint: 0805; Supplier 1: Digi-Key; Supplier Part Number 1: RMCF0805FT402RCT-ND; Mounting Type: SMD; LCSC Part #: C17681
footprint RES0805 (Chip Resistor, 2-Leads, Body 2.00x1.25mm, IPC High Density)
pins: 1, 2

## RES_430Ω_0603_5%
designator R?  value 430Ω
RES 430 OHM 5% 1/10W 0603; Manufacturer 1: Stackpole Electronics; Manufacturer Part Number 1: RMCF0603JT430R; Package/Footprint: 0603; Supplier Part Number 1: RMCF0603JT430R; Supplier 1: Digi-Key; Mounting Type: SMD
footprint RES0603 (Chip Resistor, Body 1.6x0.8mm, IPC Medium Density)
pins: 1, 2

## RES_430Ω_0805_1%
designator R?  value 430Ω
RES 430 OHM 1% 1/8W 0805; Manufacturer 1: Vishay Dale; Manufacturer Part Number 1: CRCW0805430RFKEA; Supplier 1: Digi-Key; Supplier Part Number 1: 541-430CCT-ND
footprint RES0805 (Chip Resistor, 2-Leads, Body 2.00x1.25mm, IPC High Density)
pins: 1, 2
text: 0805

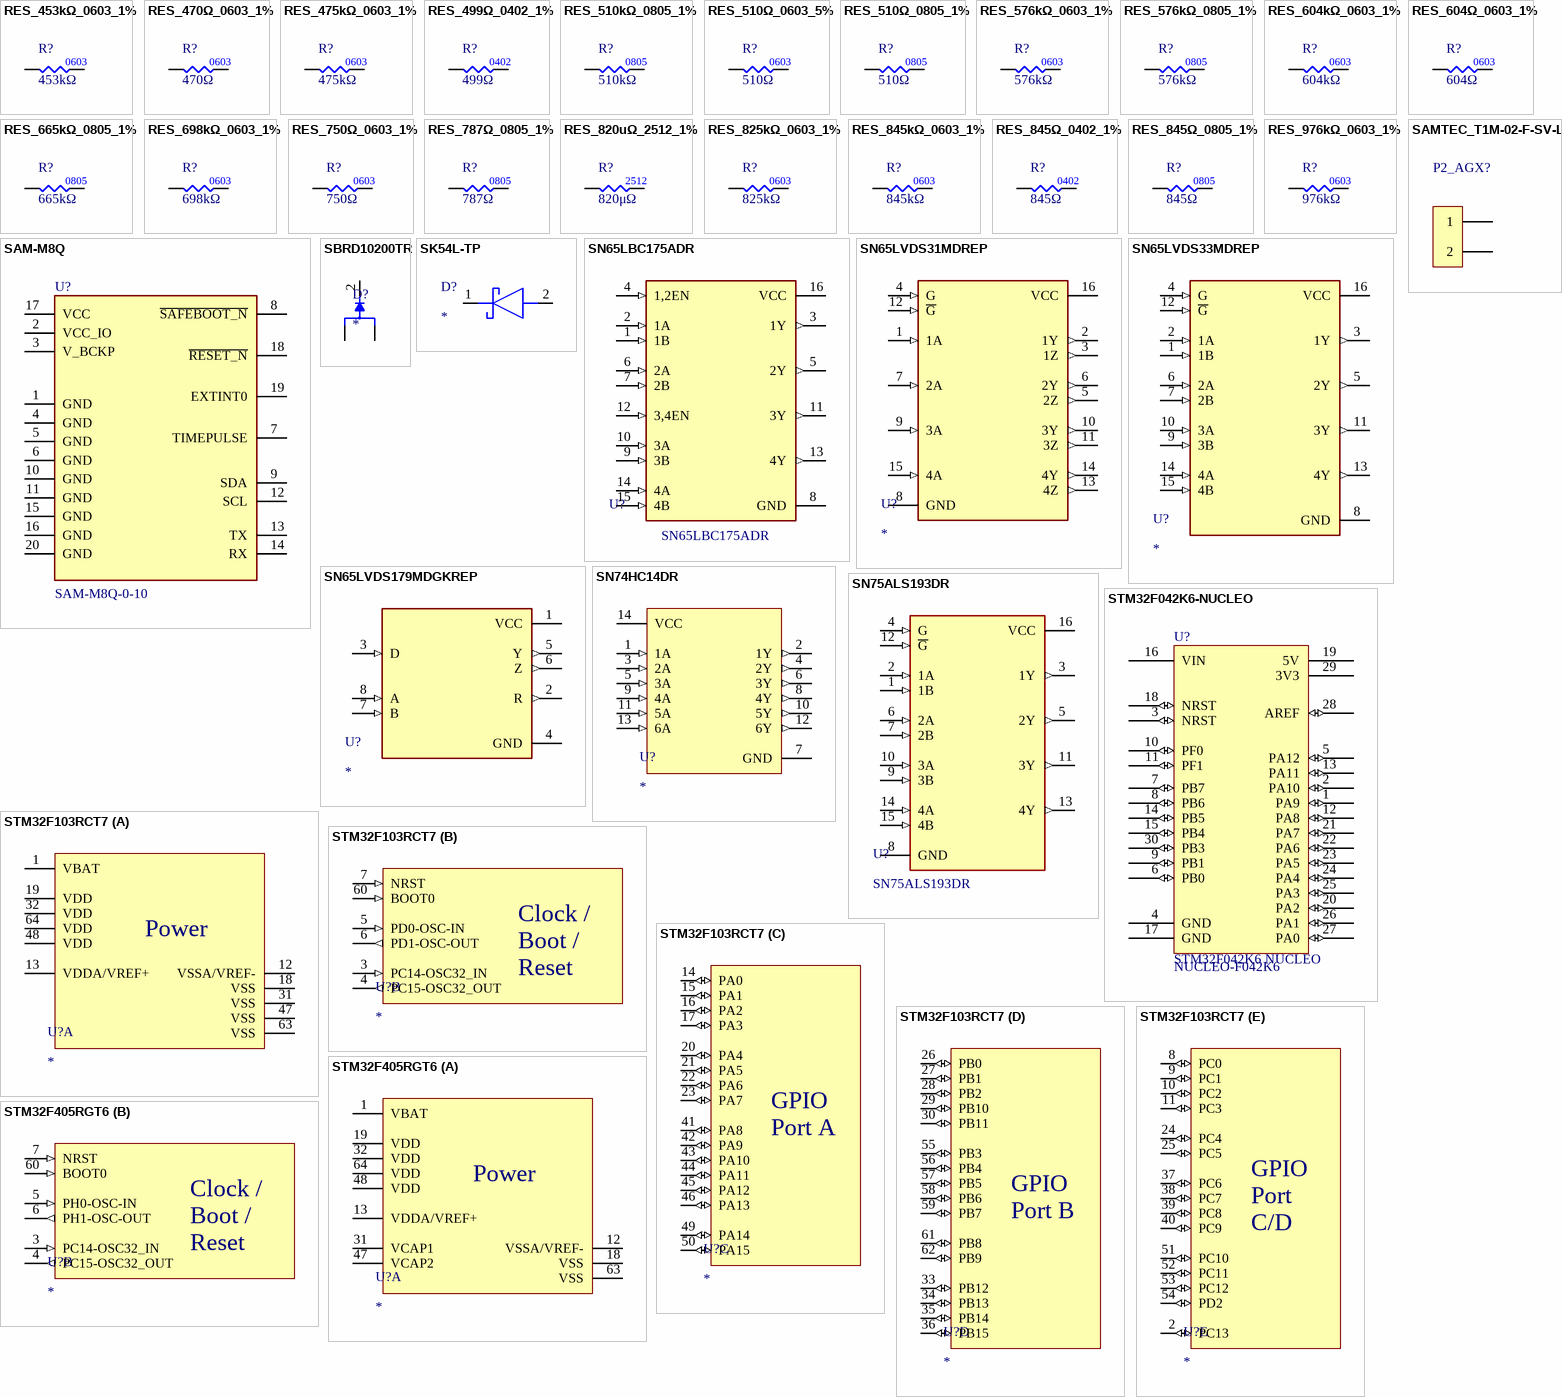
[diagram p26: symbols RES_453kΩ_0603_1% to STM32F405RGT6]

## RES_453kΩ_0603_1%
designator R?  value 453kΩ
RES 453K OHM 1% 1/10W 0603; Manufacturer 1: Panasonic Electronic Components; Manufacturer Part Number 1: ERJ-3EKF4533V; Supplier Part Number 1: P453KHCT-ND; Supplier 1: Digi-Key; Mounting Type: SMD; Package: 0603
footprint RES0603 (Chip Resistor, Body 1.6x0.8mm, IPC Medium Density)
pins: 1, 2

## RES_470Ω_0603_1%
designator R?  value 470Ω
RES 470 OHM 1% 1/10W 0603; Manufacturer 1: Yageo; Manufacturer Part Number 1: AC0603FR-07470RL; Supplier Part Number 1: 311-470LDCT-ND; Supplier 1: Digi-Key
footprint RES0603 (Chip Resistor, Body 1.6x0.8mm, IPC Medium Density)
pins: 1, 2
text: 0603

## RES_475kΩ_0603_1%
designator R?  value 475kΩ
RES 475K OHM 1% 1/10W 0603; Manufacturer 1: Yageo; Manufacturer Part Number 1: RC0603FR-07475KL; Supplier Part Number 1: 311-475KHRCT-ND; Supplier 1: Digi-Key
footprint RES0603 (Chip Resistor, Body 1.6x0.8mm, IPC Medium Density)
pins: 1, 2
text: 0603

## RES_499Ω_0402_1%
designator R?  value 499Ω
RES 499 OHM 1% 1/16W 0402; Manufacturer Part Number 1: RMCF0402FT499R; Manufacturer 1: Stackpole Electronics Inc; Power: 0.063W, 1/16W; Pacakge: 0402; Supplier 1: Digi-Key; Supplier Part Number 1: RMCF0402FT499RCT-ND; Mounting Type: SMD; Tolerance: 1%
footprint RES0402 (Chip Resistor, Body 1x0.5mm, IPC Medium Density)
pins: 1, 2

## RES_510kΩ_0805_1%
designator R?  value 510kΩ
RES 510K OHM 5% 1/8W 0805; Manufacturer 1: Stackpole Electronics Inc; Manufacturer Part Number 1: RMCF0805JT510K; Package/Footprint: 0805; Mounting Type: SMD; Supplier 1: Digi-Key; Supplier Part Number 1: RMCF0805JT510KCT-ND
footprint RES0805 (Chip Resistor, 2-Leads, Body 2.00x1.25mm, IPC High Density)
pins: 1, 2

## RES_510Ω_0603_5%
designator R?  value 510Ω
RES 510 OHM 5% 1/10W 0603; Manufacturer 1: Vishay Dale; Manufacturer Part Number 1: CRCW0603510RJNEA; Supplier Part Number 1: 541-510GCT-ND; Supplier 1: Digi-Key
footprint RES0603 (Chip Resistor, Body 1.6x0.8mm, IPC Medium Density)
pins: 1, 2
text: 0603

## RES_510Ω_0805_1%
designator R?  value 510Ω
RES 510 OHM 1% 1/8W 0805; Manufacturer 1: Yageo; Manufacturer Part Number 1: RC0805FR-07510RL; Supplier 1: Digi-Key; Supplier Part Number 1: 311-510CRCT-ND
footprint RES0805 (Chip Resistor, 2-Leads, Body 2.00x1.25mm, IPC High Density)
pins: 1, 2
text: 0805

## RES_576kΩ_0603_1%
designator R?  value 576kΩ
RES 576K OHM 1% 1/10W 0603; Manufacturer 1: Yageo; Manufacturer Part Number 1: RC0603FR-07576KL; Supplier Part Number 1: 311-576KHRCT-ND; Supplier 1: Digi-Key
footprint RES0603 (Chip Resistor, Body 1.6x0.8mm, IPC Medium Density)
pins: 1, 2
text: 0603

## RES_576kΩ_0805_1%
designator R?  value 576kΩ
RES 576K OHM 1% 1/8W 0805; Manufacturer 1: Panasonic Electronic Components; Manufacturer Part Number 1: ERJ-6ENF5763V; Supplier Part Number 1: P576KCCT-ND; Supplier 1: Digi-Key; Mounting Type: SMD; LCSC Part #: C17760; Package: 0805
footprint RES0805 (Chip Resistor, 2-Leads, Body 2.00x1.25mm, IPC High Density)
pins: 1, 2

## RES_604kΩ_0603_1%
designator R?  value 604kΩ
RES 604K OHM 1% 1/10W 0603; Manufacturer 1: Yageo; Manufacturer Part Number 1: RC0603FR-07604KL; Supplier Part Number 1: 311-604KHRCT-ND; Supplier 1: Digi-Key
footprint RES0603 (Chip Resistor, Body 1.6x0.8mm, IPC Medium Density)
pins: 1, 2
text: 0603

## RES_604Ω_0603_1%
designator R?  value 604Ω
RES 604 OHM 1% 1/10W 0603; Manufacturer 1: Yageo; Manufacturer Part Number 1: RC0603FR-07604RL; Supplier Part Number 1: 311-604HRCT-ND; Supplier 1: Digi-Key
footprint RES0603 (Chip Resistor, Body 1.6x0.8mm, IPC Medium Density)
pins: 1, 2
text: 0603

## RES_665kΩ_0805_1%
designator R?  value 665kΩ
RES 665K OHM 1% 1/8W 0805; Manufacturer 1: Yageo; Manufacturer Part Number 1: RC0805FR-07665KL; Package/Footprint: 0805; Mounting Type: SMD; Supplier 1: Digi-Key; Supplier Part Number 1: 311-665KCRCT-ND
footprint RES0805 (Chip Resistor, 2-Leads, Body 2.00x1.25mm, IPC High Density)
pins: 1, 2

## RES_698kΩ_0603_1%
designator R?  value 698kΩ
RES 698K OHM 1% 1/10W 0603; Manufacturer 1: Yageo; Manufacturer Part Number 1: RC0603FR-07698KL; Supplier Part Number 1: 311-698KHRCT-ND; Supplier 1: Digi-Key
footprint RES0603 (Chip Resistor, Body 1.6x0.8mm, IPC Medium Density)
pins: 1, 2
text: 0603

## RES_750Ω_0603_1%
designator R?  value 750Ω
RES 78.7K OHM 1% 1/10W 0603; Manufacturer 1: Yageo; Manufacturer Part Number 1: RC0603JR-07750RL; Supplier Part Number 1: 311-750GRCT-ND; Supplier 1: Digi-Key
footprint RES0603 (Chip Resistor, Body 1.6x0.8mm, IPC Medium Density)
pins: 1, 2
text: 0603

## RES_787Ω_0805_1%
designator R?  value 787Ω
RES 787 OHM 1% 1/8W 0805; Manufacturer 1: Yageo; Manufacturer Part Number 1: RC0805FR-07787RL; Package/Footprint: 0805; Mounting Type: SMD; Supplier 1: Digi-Key; Supplier Part Number 1: 311-787CRCT-ND
footprint RES0805 (Chip Resistor, 2-Leads, Body 2.00x1.25mm, IPC High Density)
pins: 1, 2

## RES_820uΩ_2512_1%
designator R?  value 820μΩ
RES 820 UOHM 1% 5W 2512; Manufacturer 1: KOA Speer Electronics, Inc.; Manufacturer Part Number 1: TLR3APDTEL820F75; Supplier 1: Digi-Key; Supplier Part Number 1: 2019-TLR3APDTEL820F75CT-ND; Mounting Type: SMD; Package: 2512
footprint RESC6532X75N
pins: 1, 2

## RES_825kΩ_0603_1%
designator R?  value 825kΩ
RES 5K OHM 1% 1/10W 0603; Manufacturer 1: Yageo; Manufacturer Part Number 1: RC0603FR-07825KL; Supplier Part Number 1: 311-825KHRCT-ND; Supplier 1: Digi-Key
footprint RES0603 (Chip Resistor, Body 1.6x0.8mm, IPC Medium Density)
pins: 1, 2
text: 0603

## RES_845kΩ_0603_1%
designator R?  value 845kΩ
RES 845K OHM 1% 1/10W 0603; Manufacturer 1: Yageo; Manufacturer Part Number 1: RC0603FR-07845KL; Supplier Part Number 1: 311-845KHRCT-ND; Supplier 1: Digi-Key
footprint RES0603 (Chip Resistor, Body 1.6x0.8mm, IPC Medium Density)
pins: 1, 2
text: 0603

## RES_845Ω_0402_1%
designator R?  value 845Ω
RES 845 OHM 1% 1/16W 0402; Manufacturer Part Number 1: CRCW0402845RFKED; Manufacturer 1: Vishay Dale; Power: 0.063W, 1/16W; Supplier 1: Digi-Key; Supplier Part Number 1: 541-845LCT-ND; Mounting Type: SMD; Package: 0402; Tolerance: 1%
footprint RES0402 (Chip Resistor, Body 1x0.5mm, IPC Medium Density)
pins: 1, 2

## RES_845Ω_0805_1%
designator R?  value 845Ω
RES 845 OHM 1% 1/8W 0805; Manufacturer Part Number 1: RC0805FR-07845RL; Manufacturer 1: YAGEO; Power: 0.125W, 1/8W; Supplier 1: Digi-Key; Supplier Part Number 1: 311-845CRCT-ND; Mounting Type: SMD; Package: 0805; Tolerance: 1%
footprint RES0805 (Chip Resistor, 2-Leads, Body 2.00x1.25mm, IPC High Density)
pins: 1, 2

## RES_976kΩ_0603_1%
designator R?  value 976kΩ
RES 976K OHM 1% 1/10W 0603; Manufacturer 1: Yageo; Manufacturer Part Number 1: RC0603FR-07976KL; Supplier Part Number 1: 311-976KHRCT-ND; Supplier 1: Digi-Key
footprint RES0603 (Chip Resistor, Body 1.6x0.8mm, IPC Medium Density)
pins: 1, 2
text: 0603

## SAM-M8Q
designator U?  Manufacturing Part Number 1: SAM-M8Q-0-10
RF RX GALILEO 1.575GHZ/1.602GHZ; Manufacturer 1: U-Blox; Sensitivity: -165dBm; Data Rate: 400Kbps; Supplier 1: Digi-Key; Frequency: 1.602GHz; Supplier Part Number 1: 672-1054-1-ND
footprint SAM-M8Q
pins: 1 GND (power), 2 VCC_IO (power), 3 V_BCKP (power), 4 GND (power), 5 GND (power), 6 GND (power), 7 TIMEPULSE, 8 ~{SAFEBOOT_N}, 9 SDA, 10 GND (power), 11 GND (power), 12 SCL, 13 TX, 14 RX, 15 GND (power), 16 GND (power), 17 VCC (power), 18 ~{RESET_N}, 19 EXTINT0, 20 GND (power)

## SAMTEC_T1M-02-F-SV-L
designator P2_AGX?
CONN HEADER SMD 2POS 1MM; Manufacturer Part Number 1: T1M-02-F-SV-L; Manufacturer 1: Samtec; Supplier 1: Digi-Key; Supplier Part Number 1: SAM15469CT-ND
footprint T1M-02-F-SV-L
pins: 1, 2

## SBRD10200TR
designator D?
SBRD10200 Series 200 V 10 A Surface Mount Schottky Rectifier - TO-252-3; Manufacturer Part Number 1: SBRD10200TR; Availability: Unavailable; Package: None; Value: *; Price: None
footprint DPAK228P1005X240-4N
pins: 1, 2, 3

## SK54L-TP
designator D?
Schottky Diode; Manufacturer_Name: Micro Commercial Components (MCC); Manufacturer_Part_Number: SK54L-TP; Datasheet Link: https://www.mouser.com/ds/2/258/SK52L-SK510L(DO-214AB)-272768.pdf; Height: 2.62mm; Mouser Part Number: 833-SK54L-TP; Mouser Price/Stock: https://www.mouser.co.uk/ProductDetail/Micro-Commercial-Components-MCC/SK54L-TP?qs=SdqRYZZ9IxBZuq1kv9ox2w%3D%3D; Arrow Part Number: SK54L-TP; Arrow Price/Stock: https://www.arrow.com/en/products/sk54l-tp/micro-commercial-components?region=nac
footprint DIOM7959X262N
pins: 1 K, 2 A

## SN65LBC175ADR
designator U?  MP: SN65LBC175ADR  (hidden comment: *)
IC RECEIVER 0/4 16SOIC; Package: None; Price: None; Value: *; Availability: Unavailable
footprint SOIC127P600X175-16N
pins: 1 1B (in), 2 1A (in), 3 1Y (out), 4 1,2EN (in), 5 2Y (out), 6 2A (in), 7 2B (in), 8 GND (power), 9 3B (in), 10 3A (in), 11 3Y (out), 12 3,4EN (in), 13 4Y (out), 14 4A (in), 15 4B (in), 16 VCC (power)

## SN65LVDS31MDREP
designator U?
IC DRIVER 4/0 16SOIC; MP: SN65LVDS31MDREP; Package: None; Price: None; Value: *; Availability: Unavailable; Supplier 1: Digi-Key; Supplier Part Number 1: 296-36715-1-ND
footprint SOIC127P600X175-16N
pins: 1 1A (in), 2 1Y (out), 3 1Z (out), 4 G (in), 5 2Z (out), 6 2Y (out), 7 2A (in), 8 GND (power), 9 3A (in), 10 3Y (out), 11 3Z (out), 12 ~{G} (in), 13 4Z (out), 14 4Y (out), 15 4A (in), 16 VCC (power)

## SN65LVDS33MDREP
designator U?
IC RECEIVER 0/4 16SOIC; MP: SN65LVDS33MDREP; Package: None; Price: None; Value: *; Availability: Unavailable; Supplier 1: Digi-Key; Supplier Part Number 1: 296-19498-1-ND
footprint SOIC127P600X175-16N
pins: 1 1B (in), 2 1A (in), 3 1Y (out), 4 G (in), 5 2Y (out), 6 2A (in), 7 2B (in), 8 GND (power), 9 3B (in), 10 3A (in), 11 3Y (out), 12 ~{G} (in), 13 4Y (out), 14 4A (in), 15 4B (in), 16 VCC (power)

## SN65LVDS179MDGKREP
designator U?
Enhanced Product High-Speed Differential Line Drivers And Receivers 8-VSSOP -55 to 125; MF: Texas Instruments; MP: SN65LVDS179MDGKREP; Package: VSSOP-8 Texas Instruments; Purchase-URL: https://pricing.snapeda.com/search/part/SN65LVDS179MDGKREP/?ref=eda; Digi-Key_Part_Number: 296-22243-1-ND; Value: *; SnapEDA_Link: https://www.snapeda.com/parts/SN65LVDS179MDGKREP/Texas%20Instruments/view-part/383554/?ref=snap; Supplier 1: Digi-Key; Supplier Part Number 1: 296-22243-1-ND
footprint SOP65P490X110-8N
pins: 1 VCC (power), 2 R (out), 3 D (in), 4 GND (power), 5 Y (out), 6 Z (out), 7 B (in), 8 A (in)

## SN74HC14DR
designator U?
IC INVERT SCHMITT 6CH 1IN 14SOIC; Manufacturer 1: Texas Instruments; Manufacturer Part Number 1: SN74HC14DR; Package/Footprint: 14-SOIC; Supplier 1: Digikey; Supplier Part Number 1: 296-1194-1-ND
footprint TI_14-SOIC
pins: 1 1A (in), 2 1Y (out), 3 2A (in), 4 2Y (out), 5 3A (in), 6 3Y (out), 7 GND (power), 8 4Y (out), 9 4A (in), 10 5Y (out), 11 5A (in), 12 6Y (out), 13 6A (in), 14 VCC (power)

## SN75ALS193DR
designator U?
0/4 Receiver - RS422, RS423 16-SOIC; Mfr_Name: Texas Instruments; Copyright: Copyright (C) 2021 Ultra Librarian. All rights reserved.; Manufacturer_Part_Number: SN75ALS193DR; RefDes: RefDes; Type: DEV; Supplier 1: Digi-Key; Supplier Part Number 1: 296-24362-1-ND
footprint SOIC127P600X175-16N (Footprint not found)
pins: 1 1B (in), 2 1A (in), 3 1Y (out), 4 G (in), 5 2Y (out), 6 2A (in), 7 2B (in), 8 GND (power), 9 3B (in), 10 3A (in), 11 3Y (out), 12 ~{G} (in), 13 4Y (out), 14 4A (in), 15 4B (in), 16 VCC (power)

## STM32F042K6-NUCLEO
designator U?, comment STM32F042K6 NUCLEO  Manufacturer Part Number: NUCLEO-F042K6
STM32 Nucleo-32 development board with STM32F042K6 MCU, supports Arduino connectivity; Manufacturer: STMicroelectronics; Supplier 1: Digi-Key; RoHS: Yes; Category: Embedded Processors and Controllers; Stock 1: 10; Pricing 1: 1=10.99000 (USD); ComponentLink1URL: http://www.farnell.com/datasheets/1966773.pdf?src-supplier=Farnell; ComponentLink1Description: http://www.farnell.com/datasheets/1966773.pdf?src-supplier=Farnell; ComponentLink2URL: http://www.st.com/content/ccc/resource/technical/document/data_brief/b1/d8/13/d4/b0/b7/4b/6e/DM00214578.pdf/files/DM00214578.pdf/jcr:content/translations/en.DM00214578.pdf?src-supplier=Digi-Key; ComponentLink2Description: http://www.st.com/content/ccc/resource/technical/document/data_brief/b1/d8/13/d4/b0/b7/4b/6e/DM00214578.pdf/files/DM00214578.pdf/jcr:content/translations/en.DM00214578.pdf?src-supplier=Digi-Key; ComponentLink3URL: http://www.st.com/st-web-ui/static/active/en/resource/technical/document/user_manual/DM00119724.pdf?s_searchtype=keyword&src-supplier=Avnet; ComponentLink3Description: http://www.st.com/st-web-ui/static/active/en/resource/technical/document/user_manual/DM00119724.pdf?s_searchtype=keyword&src-supplier=Avnet; ComponentLink4URL: http://www.farnell.com/datasheets/1966773.pdf?src-supplier=Element14; ComponentLink4Description: http://www.farnell.com/datasheets/1966773.pdf?src-supplier=Element14; ComponentLink5URL: http://www.st.com/st-web-ui/static/active/en/resource/technical/document/user_manual/DM00119724.pdf?s_searchtype=keyword&src-supplier=Avnet+Asia; ComponentLink5Description: http://www.st.com/st-web-ui/static/active/en/resource/technical/document/user_manual/DM00119724.pdf?s_searchtype=keyword&src-supplier=Avnet+Asia; Supplier Part Number 1: 497-15980-ND
footprint NUCLEO-F042K6
pins: 1 PA9 (io), 2 PA10 (io), 3 NRST (io), 4 GND (power), 5 PA12 (io), 6 PB0 (io), 7 PB7 (io), 8 PB6 (io), 9 PB1 (io), 10 PF0 (io), 11 PF1 (io), 12 PA8 (io), 13 PA11 (io), 14 PB5 (io), 15 PB4 (io), 16 VIN (power), 17 GND (power), 18 NRST (io), 19 5V (power), 20 PA2 (io), 21 PA7 (io), 22 PA6 (io), 23 PA5 (io), 24 PA4 (io), 25 PA3 (io), 26 PA1 (io), 27 PA0 (io), 28 AREF (io), 29 3V3 (power), 30 PB3 (io)

## STM32F103RCT7
designator U?
IC MCU 32BIT 256KB FLASH 64LQFP; Manufacturer 1: STMicroelectronics; Manufacturer Part Number 1: STM32F103RCT7; Package/Footprint: 64-LQFP; Supplier 1: Digi-Key; Supplier Part Number 1: 497-11527-ND
footprint STM_LQFP64 (Thin QFP, 64-Leads, Body 10x10mm, Pitch 0.5mm, IPC Medium Density)
part A pins: 1 VBAT (power), 12 VSSA/VREF- (power), 13 VDDA/VREF+ (power), 18 VSS (power), 19 VDD (power), 31 VSS (power), 32 VDD (power), 47 VSS (power), 48 VDD (power), 63 VSS (power), 64 VDD (power)
part B pins: 3 PC14-OSC32_IN (in), 4 PC15-OSC32_OUT (out), 5 PD0-OSC-IN (in), 6 PD1-OSC-OUT (out), 7 NRST (in), 60 BOOT0 (in)
part C pins: 14 PA0 (io), 15 PA1 (io), 16 PA2 (io), 17 PA3 (io), 20 PA4 (io), 21 PA5 (io), 22 PA6 (io), 23 PA7 (io), 41 PA8 (io), 42 PA9 (io), 43 PA10 (io), 44 PA11 (io), 45 PA12 (io), 46 PA13 (io), 49 PA14 (io), 50 PA15 (io)
part D pins: 26 PB0 (io), 27 PB1 (io), 28 PB2 (io), 29 PB10 (io), 30 PB11 (io), 33 PB12 (io), 34 PB13 (io), 35 PB14 (io), 36 PB15 (io), 55 PB3 (io), 56 PB4 (io), 57 PB5 (io), 58 PB6 (io), 59 PB7 (io), 61 PB8 (io), 62 PB9 (io)
part E pins: 2 PC13 (io), 8 PC0 (io), 9 PC1 (io), 10 PC2 (io), 11 PC3 (io), 24 PC4 (io), 25 PC5 (io), 37 PC6 (io), 38 PC7 (io), 39 PC8 (io), 40 PC9 (io), 51 PC10 (io), 52 PC11 (io), 53 PC12 (io), 54 PD2 (io)
part A text: Power
part B text: Clock / / Boot / / Reset
part C text: GPIO / Port A
part D text: GPIO / Port B
part E text: GPIO / Port C/D

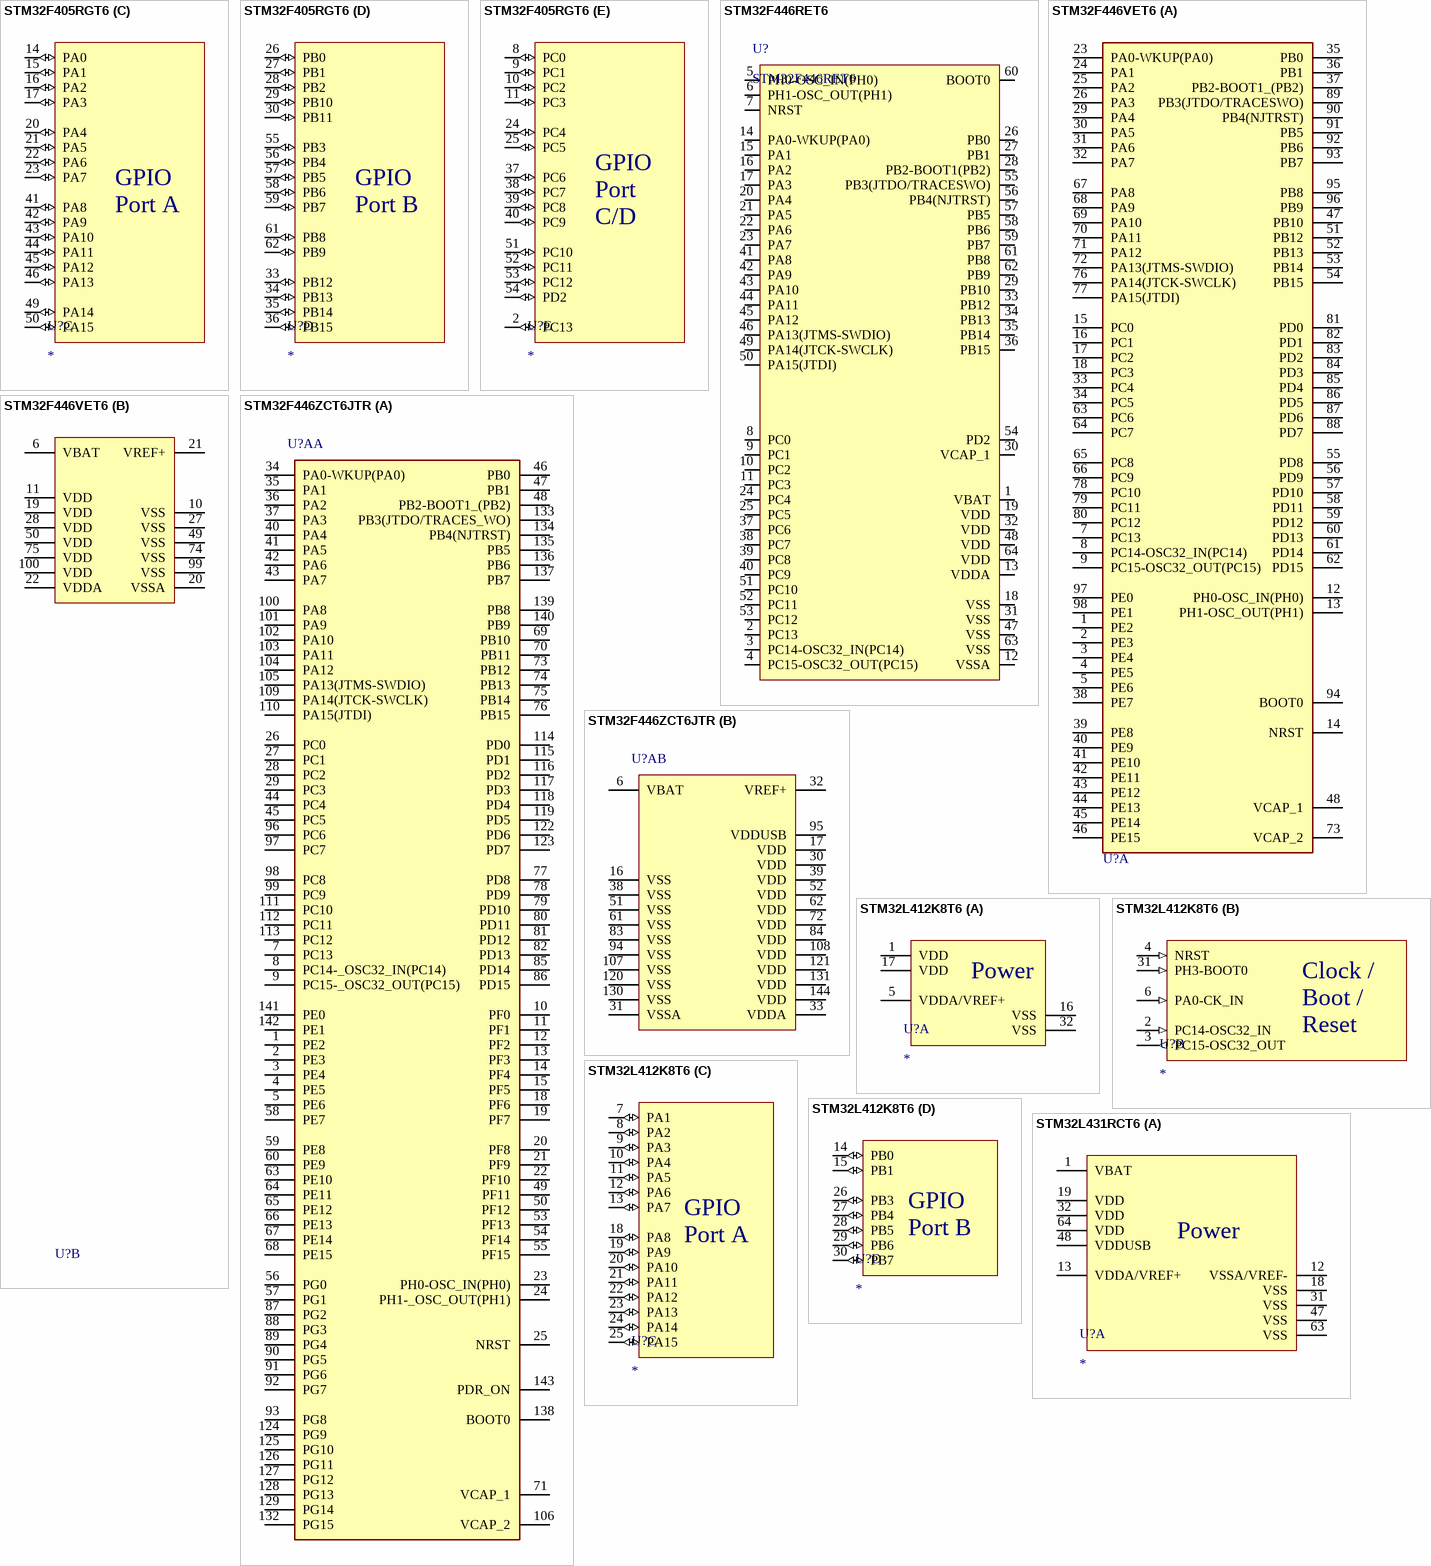
[diagram p27: symbols STM32F405RGT6 to STM32L431RCT6]